# Altium footprint library QFN.PcbLib: 84 footprints (part 2 of 6)
Each footprint in its own frame and in the unit in brackets; x right, y up, seen from the top. Pads: shape width x height; smd on the part's side, far side on the other; paste and mask are expansions set on the pad; w line width, h text height; cw(c..) or ccw(c..) is an arc to the next point about the centre after c.
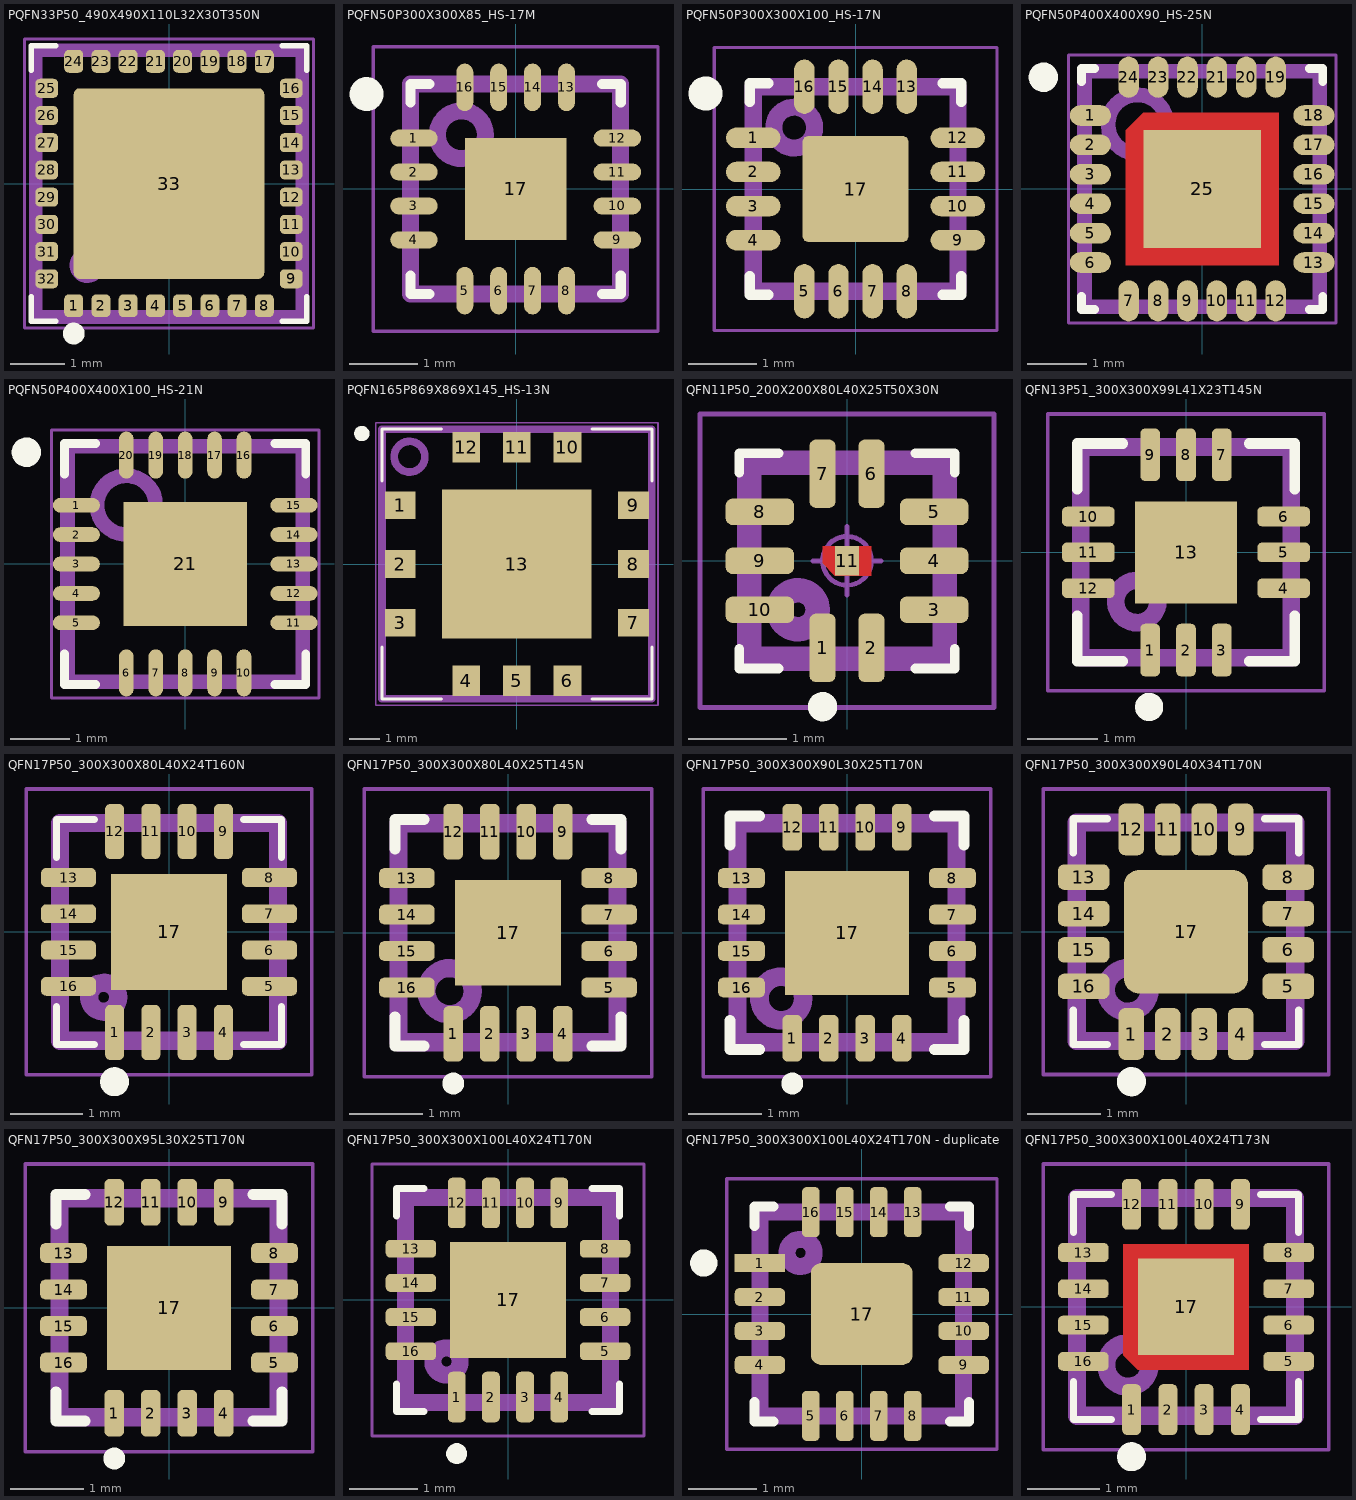
[diagram p1: the footprints below, top view; thin cyan lines are the x and y axes]

## PQFN33P50_490X490X110L32X30T350N [mm] "Pullback Quad Flat No-Lead (PQFN with Tab), 0.50 mm pitch; square, 8 pin X 8 pin, 4.90 mm L X 4.90 mm W X 1.10 mm H body"
height 1.1
pads (33):
  rrect51% 0.35x0.42 smd: 1(-1.75,-2.245) 2(-1.25,-2.245) 3(-0.75,-2.245) 4(-0.25,-2.245) 5(0.25,-2.245) 6(0.75,-2.245) 7(1.25,-2.245) 8(1.75,-2.245) 17(1.75,2.245) 18(1.25,2.245) 19(0.75,2.245) 20(0.25,2.245) 21(-0.25,2.245) 22(-0.75,2.245) 23(-1.25,2.245) 24(-1.75,2.245)
  rrect51% 0.42x0.35 smd: 9(2.245,-1.75) 10(2.245,-1.25) 11(2.245,-0.75) 12(2.245,-0.25) 13(2.245,0.25) 14(2.245,0.75) 15(2.245,1.25) 16(2.245,1.75) 25(-2.245,1.75) 26(-2.245,1.25) 27(-2.245,0.75) 28(-2.245,0.25) 29(-2.245,-0.25) 30(-2.245,-0.75) 31(-2.245,-1.25) 32(-2.245,-1.75)
  rrect6% 3.5x3.5 smd paste-3.5: 33(0,0)
Top Overlay:
  circle w0.2: c-1.75,-2.755 r0.1
  lines w0.1: -2.53,-2.08 -2.53,-2.53 -2.08,-2.53 ; -2.53,2.08 -2.53,2.53 -2.08,2.53 ; 2.08,-2.53 2.53,-2.53 2.53,-2.08 ; 2.08,2.53 2.53,2.53 2.53,2.08
Top Paste:
  region: 1.41,-1.41 0.17,-1.41 0.17,-0.17 1.41,-0.17
  region: 1.41,0.17 0.17,0.17 0.17,1.41 1.41,1.41
  region: -0.17,-1.41 -1.41,-1.41 -1.41,-0.17 -0.17,-0.17
  region: -0.17,0.17 -1.41,0.17 -1.41,1.41 -0.17,1.41
Top Assembly:
  circle w0.25: c-1.5,-1.5 r0.2
  lines w0.25: -2.45,-2.45 -2.45,2.45 2.45,2.45 2.45,-2.45 -2.45,-2.45
  text ".Designator" at -2.1,-0.3 h1.5
Top Courtyard:
  circle w0.05: c0,0 r0.25
  lines w0.05: -0.35,0 0.35,0 ; 0,-0.35 0,0.35 ; -2.655,-2.655 -2.655,2.655 2.655,2.655 2.655,-2.655 -2.655,-2.655
3D body "PQFN33P50_490X490X110L32X30T350.STEP": height 1.1, standoff 0, extent -2.45,-2.45 2.45,2.45

## PQFN50P300X300X85_HS-17M [mm] "PQFN, 16-Leads, Body 3,00x3,00mm, Pitch 0,50mm, Thermal Pad 1,50x1,50mm, IPC Low Density"
height 0.85
pads (17):
  oval 0.7x0.25 smd: 1(-1.5,0.75) 2(-1.5,0.25) 3(-1.5,-0.25) 4(-1.5,-0.75) 9(1.5,-0.75) 10(1.5,-0.25) 11(1.5,0.25) 12(1.5,0.75)
  oval 0.25x0.7 smd: 5(-0.75,-1.5) 6(-0.25,-1.5) 7(0.25,-1.5) 8(0.75,-1.5) 13(0.75,1.5) 14(0.25,1.5) 15(-0.25,1.5) 16(-0.75,1.5)
  rect 1.5x1.5 smd: 17(0,0)
Top Overlay:
  circle w0.25: c-2.2,1.4 r0.125
  lines w0.15: -1.55,-1.275 -1.55,-1.55 -1.275,-1.55 ; -1.55,1.275 -1.55,1.55 -1.275,1.55 ; 1.275,-1.55 1.55,-1.55 1.55,-1.275 ; 1.275,1.55 1.55,1.55 1.55,1.275
Top Assembly:
  circle w0.25: c-0.8,0.8 r0.354
  lines w0.25: -1.55,-1.55 1.55,-1.55 1.55,1.55 -1.55,1.55 -1.55,-1.55
  text ".Designator" at -1.2,-0.9 h1.5
Top Courtyard:
  circle w0.05: c0,0 r0.3
  lines w0.05: -0.5,0 0.5,0 ; 0,-0.5 0,0.5 ; -2.1,-2.1 2.1,-2.1 2.1,2.1 -2.1,2.1 -2.1,-2.1
3D body "PQFN50P300X300X85_HS-17M.step": height 0.85, standoff 0, extent -1.55,-1.55 1.55,1.55

## PQFN50P300X300X100_HS-17N [mm] "PQFN, 16-Leads, Body 3,00x3,00mm, Pitch 0,50mm, Thermal Pad 1,43x1,43mm, IPC Medium Density"
height 1
pads (17):
  oval 0.8x0.3 smd: 1(-1.5,0.75) 2(-1.5,0.25) 3(-1.5,-0.25) 4(-1.5,-0.75) 9(1.5,-0.75) 10(1.5,-0.25) 11(1.5,0.25) 12(1.5,0.75)
  oval 0.3x0.8 smd: 5(-0.75,-1.5) 6(-0.25,-1.5) 7(0.25,-1.5) 8(0.75,-1.5) 13(0.75,1.5) 14(0.25,1.5) 15(-0.25,1.5) 16(-0.75,1.5)
  rrect10% 1.55x1.55 smd: 17(0,0)
Top Overlay:
  circle w0.25: c-2.2,1.4 r0.125
  lines w0.15: -1.55,-1.275 -1.55,-1.55 -1.275,-1.55 ; -1.55,1.275 -1.55,1.55 -1.275,1.55 ; 1.275,-1.55 1.55,-1.55 1.55,-1.275 ; 1.275,1.55 1.55,1.55 1.55,1.275
Top Assembly:
  circle w0.25: c-0.9,0.9 r0.3
  lines w0.25: -1.5,-1.5 1.5,-1.5 1.5,1.5 -1.5,1.5 -1.5,-1.5
  text ".Designator" at -1.2,-0.6 h1.5
Top Courtyard:
  circle w0.05: c0,0 r0.3
  lines w0.05: -0.5,0 0.5,0 ; 0,-0.5 0,0.5 ; -2.075,-2.075 2.075,-2.075 2.075,2.075 -2.075,2.075 -2.075,-2.075
3D body "PQFN50P300X300X100_HS-17N.step": height 1, standoff 0, extent -1.5,-1.5 1.5,1.5

## PQFN50P400X400X90_HS-25N [mm] "PQFN, 24-Leads, Body 4,00x4,00mm, Pitch 0,50mm, Thermal Pad 2,60x2,60mm, IPC Medium Density"
height 0.9
pads (25):
  oval 0.7x0.35 smd: 1(-1.9,1.25) 2(-1.9,0.75) 3(-1.9,0.25) 4(-1.9,-0.25) 5(-1.9,-0.75) 6(-1.9,-1.25) 13(1.9,-1.25) 14(1.9,-0.75) 15(1.9,-0.25) 16(1.9,0.25) 17(1.9,0.75) 18(1.9,1.25)
  oval 0.35x0.7 smd: 7(-1.25,-1.9) 8(-0.75,-1.9) 9(-0.25,-1.9) 10(0.25,-1.9) 11(0.75,-1.9) 12(1.25,-1.9) 19(1.25,1.9) 20(0.75,1.9) 21(0.25,1.9) 22(-0.25,1.9) 23(-0.75,1.9) 24(-1.25,1.9)
  rect 2x2 smd: 25(0,0)
Top Layer:
  region: -1,1.3 1.3,1.3 1.3,-1.3 -1.3,-1.3 -1.3,1
Top Overlay:
  circle w0.25: c-2.7,1.9 r0.125
  lines w0.15: -2.05,-1.825 -2.05,-2.05 -1.825,-2.05 ; -2.05,1.825 -2.05,2.05 -1.825,2.05 ; 1.825,-2.05 2.05,-2.05 2.05,-1.825 ; 1.825,2.05 2.05,2.05 2.05,1.825
Top Assembly:
  circle w0.25: c-1.1,1.1 r0.5
  lines w0.25: -2,-2 -2,2 2,2 2,-2 -2,-2
  text ".Designator" at -1.6,-0.7 h1.5
Top Courtyard:
  circle w0.05: c0,0 r0.3
  lines w0.05: -0.5,0 0.5,0 ; 0,-0.5 0,0.5 ; -2.275,-2.275 -2.275,2.275 2.275,2.275 2.275,-2.275 -2.275,-2.275
3D body "PQFN50P400X400X90_HS-25N.step": height 0.9, standoff 0, extent -2,-2 2,2

## PQFN50P400X400X100_HS-21N [mm] "PQFN, 20-Leads, Body 4,00x4,00mm, Pitch 0,50mm, Thermal Pad 2,10x2,10mm, IPC Medium Density"
height 1
pads (21):
  oval 0.8x0.25 smd: 1(-1.85,1) 2(-1.85,0.5) 3(-1.85,0) 4(-1.85,-0.5) 5(-1.85,-1) 11(1.85,-1) 12(1.85,-0.5) 13(1.85,0) 14(1.85,0.5) 15(1.85,1)
  oval 0.25x0.8 smd: 6(-1,-1.85) 7(-0.5,-1.85) 8(0,-1.85) 9(0.5,-1.85) 10(1,-1.85) 16(1,1.85) 17(0.5,1.85) 18(0,1.85) 19(-0.5,1.85) 20(-1,1.85)
  rect 2.1x2.1 smd: 21(0,0)
Top Overlay:
  circle w0.25: c-2.7,1.9 r0.125
  lines w0.15: -2.05,-1.525 -2.05,-2.05 -1.525,-2.05 ; -2.05,1.525 -2.05,2.05 -1.525,2.05 ; 1.525,-2.05 2.05,-2.05 2.05,-1.525 ; 1.525,2.05 2.05,2.05 2.05,1.525
Top Assembly:
  circle w0.25: c-1,1 r0.5
  lines w0.25: -2,-2 2,-2 2,2 -2,2 -2,-2
  text ".Designator" at -1.6,-1 h1.5
Top Courtyard:
  circle w0.05: c0,0 r0.3
  lines w0.05: -0.5,0 0.5,0 ; 0,-0.5 0,0.5 ; -2.275,-2.275 2.275,-2.275 2.275,2.275 -2.275,2.275 -2.275,-2.275
3D body "PQFN50P400X400X100_HS-21N.step": height 1, standoff 0, extent -2,-2 2,2

## PQFN165P869X869X145_HS-13N [mm] "PQFN, 12-Leads, Body 8.69x8.69mm, Pitch 1.65mm/1.91mm, Thermal Pad 4.87x4.87mm, IPC Medium Density"
height 1.45
pads (13):
  rect 1x0.9 smd: 1(-3.8,1.91) 2(-3.8,0) 3(-3.8,-1.91) 7(3.8,-1.91) 8(3.8,0) 9(3.8,1.91)
  rect 0.9x1 smd: 4(-1.65,-3.8) 5(0,-3.8) 6(1.65,-3.8) 10(1.65,3.8) 11(0,3.8) 12(-1.65,3.8)
  rect 4.87x4.87 smd: 13(0,0)
Top Overlay:
  circle w0.25: c-5.05,4.25 r0.125
  lines w0.1: -4.4,-2.71 -4.4,-4.4 -2.45,-4.4 ; -4.4,2.71 -4.4,4.4 -2.45,4.4 ; 2.45,-4.4 4.4,-4.4 4.4,-2.71 ; 2.45,4.4 4.4,4.4 4.4,2.71
Top Assembly:
  circle w0.25: c-3.495,3.495 r0.5
  lines w0.25: -4.395,-4.395 4.395,-4.395 4.395,4.395 -4.395,4.395 -4.395,-4.395
  text ".Designator" at -3.5,-0.3 h1.5
Top Courtyard:
  lines w0.05: -4.6,-4.6 4.6,-4.6 4.6,4.6 -4.6,4.6 -4.6,-4.6
  lines w0.1: -0.5,0 0.5,0 ; 0,-0.5 0,0.5
3D body "PQFN165P869X869X145_HS-13N.step": height 1.45, standoff 0, extent -4.395,-4.395 4.395,4.395

## QFN11P50_200X200X80L40X25T50X30N [mm] "Quad Flat No-Lead (QFN with Tab), 0.50 mm pitch; square, 2 pin X 3 pin, 2.00 mm L X 2.00 mm W X 0.80 mm H body"
height 0.8
pads (11):
  rrect52% 0.27x0.7 smd: 1(-0.25,-0.89) 2(0.25,-0.89) 6(0.25,0.89) 7(-0.25,0.89)
  rrect52% 0.7x0.27 smd: 3(0.89,-0.5) 4(0.89,0) 5(0.89,0.5) 8(-0.89,0.5) 9(-0.89,0) 10(-0.89,-0.5)
  rect 0.25x0.3 smd paste-0.3 mask-0.3: 11(0,0)
Top Layer:
  region: 0.25,-0.15 -0.125,-0.15 -0.25,-0.025 -0.25,0.15 0.25,0.15
Top Overlay:
  circle w0.15: c-0.25,-1.49 r0.075
  lines w0.1: -1.1,-0.9 -1.1,-1.1 -0.7,-1.1 ; -1.1,0.9 -1.1,1.1 -0.7,1.1 ; 0.7,-1.1 1.1,-1.1 1.1,-0.9 ; 0.7,1.1 1.1,1.1 1.1,0.9
Top Paste:
  region: 0.25,-0.15 -0.125,-0.15 -0.25,-0.025 -0.25,0.15 0.25,0.15
Top Solder:
  region: 0.25,-0.15 -0.125,-0.15 -0.25,-0.025 -0.25,0.15 0.25,0.15
Top Assembly:
  circle w0.25: c-0.5,-0.5 r0.2
  lines w0.25: -1,-1 1,-1 1,1 -1,1 -1,-1
  text ".Designator" at -1.9,1.5 h1.5
Top Courtyard:
  circle w0.05: c0,0 r0.25
  lines w0.05: -0.35,0 0.35,0 ; 0,-0.35 0,0.35 ; -1.5,-1.5 1.5,-1.5 1.5,1.5 -1.5,1.5 -1.5,-1.5
3D body "QFN11P50_200X200X80L40X25T50X30.STEP": height 0.8, standoff 0, extent -1.05,-1.05 1.05,1.05

## QFN13P51_300X300X99L41X23T145N [mm] "Quad Flat No-Lead (QFN with Tab), 0.51 mm pitch; square, 3 pin X 3 pin, 3.00 mm L X 3.00 mm W X 0.99 mm H body"
height 0.99
pads (13):
  rrect50% 0.28x0.75 smd: 1(-0.51,-1.39) 2(0,-1.39) 3(0.51,-1.39) 7(0.51,1.39) 8(0,1.39) 9(-0.51,1.39)
  rrect50% 0.75x0.28 smd: 4(1.39,-0.51) 5(1.39,0) 6(1.39,0.51) 10(-1.39,0.51) 11(-1.39,0) 12(-1.39,-0.51)
  rect 1.45x1.45 smd paste-1.45: 13(0,0)
Top Overlay:
  circle w0.2: c-0.525,-2.2 r0.1
  lines w0.15: -1.55,-0.9 -1.55,-1.55 -0.9,-1.55 ; -1.55,0.9 -1.55,1.55 -0.9,1.55 ; 0.9,-1.55 1.55,-1.55 1.55,-0.9 ; 0.9,1.55 1.55,1.55 1.55,0.9
Top Paste:
  region: 0.615,-0.615 0.105,-0.615 0.105,-0.105 0.615,-0.105
  region: 0.615,0.105 0.105,0.105 0.105,0.615 0.615,0.615
  region: -0.105,-0.615 -0.615,-0.615 -0.615,-0.105 -0.105,-0.105
  region: -0.105,0.105 -0.615,0.105 -0.615,0.615 -0.105,0.615
Top Assembly:
  circle w0.25: c-0.7,-0.7 r0.3
  lines w0.25: -1.5,-1.5 -1.5,1.5 1.5,1.5 1.5,-1.5 -1.5,-1.5
  text ".Designator" at -1,0 h1.5
Top Courtyard:
  circle w0.05: c0,0 r0.25
  lines w0.05: -0.35,0 0.35,0 ; 0,-0.35 0,0.35 ; -1.97,-1.97 -1.97,1.97 1.97,1.97 1.97,-1.97 -1.97,-1.97
3D body "QFN13P51_300X300X99L41X23T145.STEP": height 0.99, standoff 0, extent -1.55,-1.55 1.55,1.55

## QFN17P50_300X300X80L40X24T160N [mm] "Quad Flat No-Lead (QFN with Tab), 0.50 mm pitch; square, 4 pin X 4 pin, 3.00 mm L X 3.00 mm W X 0.80 mm H body"
height 0.8
pads (17):
  rrect54% 0.26x0.76 smd: 1(-0.75,-1.385) 2(-0.25,-1.385) 3(0.25,-1.385) 4(0.75,-1.385) 9(0.75,1.385) 10(0.25,1.385) 11(-0.25,1.385) 12(-0.75,1.385)
  rrect54% 0.76x0.26 smd: 5(1.385,-0.75) 6(1.385,-0.25) 7(1.385,0.25) 8(1.385,0.75) 13(-1.385,0.75) 14(-1.385,0.25) 15(-1.385,-0.25) 16(-1.385,-0.75)
  rect 1.6x1.6 smd paste-1.6: 17(0,0)
Top Overlay:
  circle w0.2: c-0.75,-2.065 r0.1
  lines w0.1: -1.55,-1.03 -1.55,-1.55 -1.03,-1.55 ; -1.55,1.03 -1.55,1.55 -1.03,1.55 ; 1.03,-1.55 1.55,-1.55 1.55,-1.03 ; 1.03,1.55 1.55,1.55 1.55,1.03
Top Paste:
  region: 0.65,-0.65 0.08,-0.65 0.08,-0.08 0.65,-0.08
  region: 0.65,0.08 0.08,0.08 0.08,0.65 0.65,0.65
  region: -0.08,-0.65 -0.65,-0.65 -0.65,-0.08 -0.08,-0.08
  region: -0.08,0.08 -0.65,0.08 -0.65,0.65 -0.08,0.65
Top Assembly:
  circle w0.25: c-0.9,-0.9 r0.2
  lines w0.25: -1.5,-1.5 -1.5,1.5 1.5,1.5 1.5,-1.5 -1.5,-1.5
  text ".Designator" at -2.5,2 h1.5
Top Courtyard:
  circle w0.05: c0,0 r0.25
  lines w0.05: -0.35,0 0.35,0 ; 0,-0.35 0,0.35 ; -1.97,-1.97 -1.97,1.97 1.97,1.97 1.97,-1.97 -1.97,-1.97
3D body "QFN17P50_300X300X80L40X24T160.STEP": height 0.8, standoff 0, extent -1.55,-1.55 1.55,1.55

## QFN17P50_300X300X80L40X25T145N [mm] "Quad Flat No-Lead (QFN with Tab), 0.50 mm pitch; square, 4 pin X 4 pin, 3.00 mm L X 3.00 mm W X 0.80 mm H body"
height 0.8
pads (17):
  rrect52% 0.27x0.76 smd: 1(-0.75,-1.385) 2(-0.25,-1.385) 3(0.25,-1.385) 4(0.75,-1.385) 9(0.75,1.385) 10(0.25,1.385) 11(-0.25,1.385) 12(-0.75,1.385)
  rrect52% 0.76x0.27 smd: 5(1.385,-0.75) 6(1.385,-0.25) 7(1.385,0.25) 8(1.385,0.75) 13(-1.385,0.75) 14(-1.385,0.25) 15(-1.385,-0.25) 16(-1.385,-0.75)
  rect 1.45x1.45 smd paste-1.45: 17(0,0)
Top Overlay:
  circle w0.15: c-0.75,-2.065 r0.075
  lines w0.15: -1.55,-1.15 -1.55,-1.55 -1.15,-1.55 ; -1.55,1.15 -1.55,1.55 -1.15,1.55 ; 1.15,-1.55 1.55,-1.55 1.55,-1.15 ; 1.15,1.55 1.55,1.55 1.55,1.15
Top Paste:
  region: -0.105,0.105 -0.615,0.105 -0.615,0.615 -0.105,0.615
  region: -0.105,-0.615 -0.615,-0.615 -0.615,-0.105 -0.105,-0.105
  region: 0.615,0.105 0.105,0.105 0.105,0.615 0.615,0.615
  region: 0.615,-0.615 0.105,-0.615 0.105,-0.105 0.615,-0.105
Top Assembly:
  circle w0.25: c-0.8,-0.8 r0.316
  lines w0.25: -1.5,-1.5 1.5,-1.5 1.5,1.5 -1.5,1.5 -1.5,-1.5
  text ".Designator" at -3.378,-0.339 h1.5
Top Courtyard:
  circle w0.05: c0,0 r0.25
  lines w0.05: -0.35,0 0.35,0 ; 0,-0.35 0,0.35 ; -1.97,-1.97 1.97,-1.97 1.97,1.97 -1.97,1.97 -1.97,-1.97
3D body "QFN17P50_300X300X80L40X25T145.STEP": height 0.8, standoff 0, extent -1.55,-1.55 1.55,1.55

## QFN17P50_300X300X90L30X25T170N [mm] "Quad Flat No-Lead (QFN with Tab), 0.50 mm pitch; square, 4 pin X 4 pin, 3.00 mm L X 3.00 mm W X 0.90 mm H body"
height 0.9
pads (17):
  rrect52% 0.27x0.64 smd: 1(-0.75,-1.445) 2(-0.25,-1.445) 3(0.25,-1.445) 4(0.75,-1.445) 9(0.75,1.445) 10(0.25,1.445) 11(-0.25,1.445) 12(-0.75,1.445)
  rrect52% 0.64x0.27 smd: 5(1.445,-0.75) 6(1.445,-0.25) 7(1.445,0.25) 8(1.445,0.75) 13(-1.445,0.75) 14(-1.445,0.25) 15(-1.445,-0.25) 16(-1.445,-0.75)
  rect 1.7x1.7 smd paste-1.7: 17(0,0)
Top Overlay:
  circle w0.15: c-0.75,-2.065 r0.075
  lines w0.15: -1.6,-1.2 -1.6,-1.6 -1.2,-1.6 ; -1.6,1.2 -1.6,1.6 -1.2,1.6 ; 1.2,-1.6 1.6,-1.6 1.6,-1.2 ; 1.2,1.6 1.6,1.6 1.6,1.2
Top Paste:
  region: -0.125,0.125 -0.725,0.125 -0.725,0.725 -0.125,0.725
  region: -0.125,-0.725 -0.725,-0.725 -0.725,-0.125 -0.125,-0.125
  region: 0.725,0.125 0.125,0.125 0.125,0.725 0.725,0.725
  region: 0.725,-0.725 0.125,-0.725 0.125,-0.125 0.725,-0.125
Top Assembly:
  circle w0.254: c-0.9,-0.9 r0.3
  lines w0.25: -1.5,-1.5 1.5,-1.5 1.5,1.5 -1.5,1.5 -1.5,-1.5
  text ".Designator" at -3.378,-0.339 h1.5
Top Courtyard:
  circle w0.05: c0,0 r0.25
  lines w0.05: -0.35,0 0.35,0 ; 0,-0.35 0,0.35 ; -1.97,-1.97 1.97,-1.97 1.97,1.97 -1.97,1.97 -1.97,-1.97
3D body "QFN17P50_300X300X90L30X25T170.STEP": height 0.9, standoff 0, extent -1.55,-1.55 1.55,1.55

## QFN17P50_300X300X90L40X34T170N [mm] "Quad Flat No-Lead (QFN with Tab), 0.50 mm pitch; square, 4 pin X 4 pin, 3.00 mm L X 3.00 mm W X 0.90 mm H body"
height 0.9
pads (17):
  rrect51% 0.35x0.71 smd: 1(-0.75,-1.405) 2(-0.25,-1.405) 3(0.25,-1.405) 4(0.75,-1.405) 9(0.75,1.405) 10(0.25,1.405) 11(-0.25,1.405) 12(-0.75,1.405)
  rrect51% 0.71x0.35 smd: 5(1.405,-0.75) 6(1.405,-0.25) 7(1.405,0.25) 8(1.405,0.75) 13(-1.405,0.75) 14(-1.405,0.25) 15(-1.405,-0.25) 16(-1.405,-0.75)
  rrect24% 1.7x1.7 smd paste-1.7: 17(0,0)
Top Overlay:
  circle w0.2: c-0.75,-2.06 r0.1
  lines w0.1: -1.55,-1.08 -1.55,-1.55 -1.08,-1.55 ; -1.55,1.08 -1.55,1.55 -1.08,1.55 ; 1.08,-1.55 1.55,-1.55 1.55,-1.08 ; 1.08,1.55 1.55,1.55 1.55,1.08
Top Paste:
  region: 0.685,-0.685 0.085,-0.685 0.085,-0.085 0.685,-0.085
  region: 0.685,0.085 0.085,0.085 0.085,0.685 0.685,0.685
  region: -0.085,-0.685 -0.685,-0.685 -0.685,-0.085 -0.085,-0.085
  region: -0.085,0.085 -0.685,0.085 -0.685,0.685 -0.085,0.685
Top Assembly:
  circle w0.25: c-0.8,-0.8 r0.3
  lines w0.25: -1.5,-1.5 -1.5,1.5 1.5,1.5 1.5,-1.5 -1.5,-1.5
  text ".Designator" at -1.9,2 h1.5
Top Courtyard:
  circle w0.05: c0,0 r0.25
  lines w0.05: -0.35,0 0.35,0 ; 0,-0.35 0,0.35 ; -1.96,-1.96 -1.96,1.96 1.96,1.96 1.96,-1.96 -1.96,-1.96
3D body "QFN17P50_300X300X90L40X34T170.STEP": height 0.9, standoff 0, extent -1.55,-1.55 1.55,1.55

## QFN17P50_300X300X95L30X25T170N [mm] "Quad Flat No-Lead (QFN with Tab), 0.50 mm pitch; square, 4 pin X 4 pin, 3.00 mm L X 3.00 mm W X 0.95 mm H body"
height 0.95
pads (17):
  rrect52% 0.27x0.64 smd: 1(-0.75,-1.445) 2(-0.25,-1.445) 3(0.25,-1.445) 4(0.75,-1.445) 9(0.75,1.445) 10(0.25,1.445) 11(-0.25,1.445) 12(-0.75,1.445)
  rrect52% 0.64x0.27 smd: 5(1.445,-0.75) 6(1.445,-0.25) 7(1.445,0.25) 8(1.445,0.75) 13(-1.445,0.75) 14(-1.445,0.25) 15(-1.445,-0.25) 16(-1.445,-0.75)
  rect 1.7x1.7 smd paste-1.7: 17(0,0)
Top Overlay:
  circle w0.15: c-0.75,-2.065 r0.075
  lines w0.15: -1.55,-1.15 -1.55,-1.55 -1.15,-1.55 ; -1.55,1.15 -1.55,1.55 -1.15,1.55 ; 1.15,-1.55 1.55,-1.55 1.55,-1.15 ; 1.15,1.55 1.55,1.55 1.55,1.15
Top Paste:
  region: 0.725,-0.725 0.125,-0.725 0.125,-0.125 0.725,-0.125
  region: 0.725,0.125 0.125,0.125 0.125,0.725 0.725,0.725
  region: -0.125,-0.725 -0.725,-0.725 -0.725,-0.125 -0.125,-0.125
  region: -0.125,0.125 -0.725,0.125 -0.725,0.725 -0.125,0.725
Top Assembly:
  lines w0.25: -1.5,-1.5 -1.5,1.5 1.5,1.5 1.5,-1.5 -1.5,-1.5
  text ".Designator" at 0,0 h1.5
Top Courtyard:
  circle w0.05: c0,0 r0.25
  lines w0.05: -0.35,0 0.35,0 ; 0,-0.35 0,0.35 ; -1.97,-1.97 -1.97,1.97 1.97,1.97 1.97,-1.97 -1.97,-1.97
3D body "QFN17P50_300X300X95L30X25T170.STEP": height 0.95, standoff 0, extent -1.55,-1.55 1.55,1.55

## QFN17P50_300X300X100L40X24T170N [mm] "Quad Flat No-Lead (QFN with Tab), 0.50 mm pitch; square, 4 pin X 4 pin, 3.00 mm L X 3.00 mm W X 1.00 mm H body"
height 1
pads (17):
  rrect54% 0.26x0.74 smd: 1(-0.75,-1.42) 2(-0.25,-1.42) 3(0.25,-1.42) 4(0.75,-1.42) 9(0.75,1.42) 10(0.25,1.42) 11(-0.25,1.42) 12(-0.75,1.42)
  rrect54% 0.74x0.26 smd: 5(1.42,-0.75) 6(1.42,-0.25) 7(1.42,0.25) 8(1.42,0.75) 13(-1.42,0.75) 14(-1.42,0.25) 15(-1.42,-0.25) 16(-1.42,-0.75)
  rect 1.7x1.7 smd paste-1.7: 17(0,0)
Top Overlay:
  region: -0.9,-2.25 -0.9,-2.22 -0.877,-2.165 -0.835,-2.123 -0.78,-2.1 -0.75,-2.1 -0.72,-2.1 -0.665,-2.123 -0.623,-2.165 -0.6,-2.22 -0.6,-2.25 -0.6,-2.28 -0.623,-2.335 -0.665,-2.377 -0.72,-2.4 -0.75,-2.4 -0.78,-2.4 -0.835,-2.377 -0.877,-2.335 -0.9,-2.28
  lines w0.1: -1.63,-1.23 -1.63,-1.63 -1.23,-1.63 ; -1.63,1.23 -1.63,1.63 -1.23,1.63 ; 1.23,-1.63 1.63,-1.63 1.63,-1.23 ; 1.23,1.63 1.63,1.63 1.63,1.23
Top Paste:
  region: 0.685,-0.685 0.085,-0.685 0.085,-0.085 0.685,-0.085
  region: 0.685,0.085 0.085,0.085 0.085,0.685 0.685,0.685
  region: -0.085,-0.685 -0.685,-0.685 -0.685,-0.085 -0.085,-0.085
  region: -0.085,0.085 -0.685,0.085 -0.685,0.685 -0.085,0.685
Top Assembly:
  circle w0.25: c-0.9,-0.9 r0.2
  lines w0.25: -1.5,-1.5 -1.5,1.5 1.5,1.5 1.5,-1.5 -1.5,-1.5
  text ".Designator" at -3.378,-0.339 h1.5
Top Courtyard:
  circle w0.05: c0,0 r0.25
  lines w0.05: -0.35,0 0.35,0 ; 0,-0.35 0,0.35 ; -1.99,-1.99 -1.99,1.99 1.99,1.99 1.99,-1.99 -1.99,-1.99
3D body "QFN17P50_300X300X100L40X24T170.STEP": height 1, standoff 0, extent -1.55,-1.55 1.55,1.55

## QFN17P50_300X300X100L40X24T170N - duplicate [mm] "Quad Flat No-Lead (QFN with Tab), 0.50 mm pitch; square, 4 pin X 4 pin, 3.00 mm L X 3.00 mm W X 1.00 mm H body"
height 1
pads (17):
  rect 0.74x0.26 smd: 1(-1.5,0.75)
  rrect54% 0.74x0.26 smd: 2(-1.5,0.25) 3(-1.5,-0.25) 4(-1.5,-0.75) 9(1.5,-0.75) 10(1.5,-0.25) 11(1.5,0.25) 12(1.5,0.75)
  rrect54% 0.26x0.74 smd: 5(-0.75,-1.5) 6(-0.25,-1.5) 7(0.25,-1.5) 8(0.75,-1.5) 13(0.75,1.5) 14(0.25,1.5) 15(-0.25,1.5) 16(-0.75,1.5)
  rrect20% 1.5x1.5 smd paste-1.7: 17(0,0)
Top Overlay:
  circle w0.2: c-2.325,0.75 r0.1
  lines w0.15: -1.58,-1.3 -1.58,-1.58 -1.3,-1.58 ; -1.58,1.3 -1.58,1.58 -1.3,1.58 ; 1.3,-1.58 1.58,-1.58 1.58,-1.3 ; 1.3,1.58 1.58,1.58 1.58,1.3
Top Paste:
  region: 0.085,0.085 0.085,0.685 0.685,0.685 0.685,0.085
  region: -0.685,0.085 -0.685,0.685 -0.085,0.685 -0.085,0.085
  region: 0.085,-0.685 0.085,-0.085 0.685,-0.085 0.685,-0.685
  region: -0.685,-0.685 -0.685,-0.085 -0.085,-0.085 -0.085,-0.685
Top Assembly:
  circle w0.25: c-0.9,0.9 r0.2
  lines w0.25: -1.5,-1.5 -1.5,1.5 1.5,1.5 1.5,-1.5 -1.5,-1.5
  text ".Designator" at -0.7,-0.05 h1.5
Top Courtyard:
  circle w0.05: c0,0 r0.25
  lines w0.05: -0.35,0 0.35,0 ; 0,-0.35 0,0.35 ; -1.99,-1.99 -1.99,1.99 1.99,1.99 1.99,-1.99 -1.99,-1.99
3D body "QFN17P50_300X300X100L40X24T170.STEP": height 1, standoff 0, extent -1.55,-1.55 1.55,1.55

## QFN17P50_300X300X100L40X24T173N [mm] "Quad Flat No-Lead (QFN with Tab), 0.50 mm pitch; square, 4 pin X 4 pin, 3.00 mm L X 3.00 mm W X 1.00 mm H body"
height 1
pads (17):
  rrect54% 0.26x0.7 smd: 1(-0.75,-1.415) 2(-0.25,-1.415) 3(0.25,-1.415) 4(0.75,-1.415) 9(0.75,1.415) 10(0.25,1.415) 11(-0.25,1.415) 12(-0.75,1.415)
  rrect54% 0.7x0.26 smd: 5(1.415,-0.75) 6(1.415,-0.25) 7(1.415,0.25) 8(1.415,0.75) 13(-1.415,0.75) 14(-1.415,0.25) 15(-1.415,-0.25) 16(-1.415,-0.75)
  rect 1.33x1.33 smd paste-1.33 mask-1.33: 17(0,0)
Top Layer:
  region: 0.865,-0.865 -0.665,-0.865 -0.865,-0.665 -0.865,0.865 0.865,0.865
Top Overlay:
  circle w0.2: c-0.75,-2.065 r0.1
  lines w0.1: -1.55,-1.03 -1.55,-1.55 -1.03,-1.55 ; -1.55,1.03 -1.55,1.55 -1.03,1.55 ; 1.03,-1.55 1.55,-1.55 1.55,-1.03 ; 1.03,1.55 1.55,1.55 1.55,1.03
Top Assembly:
  circle w0.25: c-0.8,-0.8 r0.3
  lines w0.25: -1.5,-1.5 1.5,-1.5 1.5,1.5 -1.5,1.5 -1.5,-1.5
  text ".Designator" at -2.4,2.1 h1.5
Top Courtyard:
  circle w0.05: c0,0 r0.25
  lines w0.05: -0.35,0 0.35,0 ; 0,-0.35 0,0.35 ; -1.97,-1.97 1.97,-1.97 1.97,1.97 -1.97,1.97 -1.97,-1.97
3D body "QFN17P50_300X300X100L40X24T173.STEP": height 1, standoff 0, extent -1.55,-1.55 1.55,1.55